# Altium footprint library Gates.PcbLib: 1 footprints
Each footprint in its own frame and in the unit in brackets; x right, y up, seen from the top. Pads: shape width x height; smd on the part's side, far side on the other; paste and mask are expansions set on the pad; w line width, h text height; cw(c..) or ccw(c..) is an arc to the next point about the centre after c.
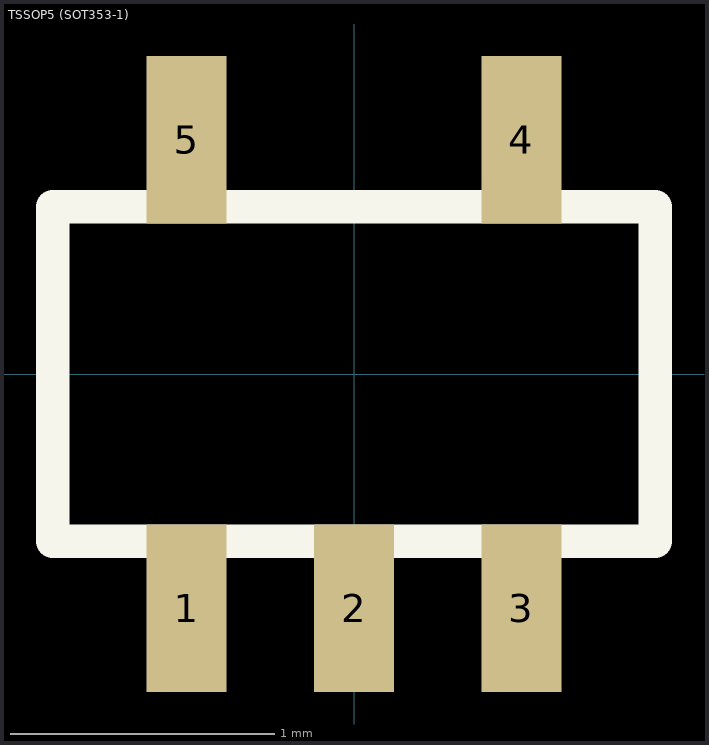
[diagram p0: the footprint, top view; thin cyan lines are the x and y axes]

## TSSOP5 (SOT353-1) [mil]
pads (5):
  rect 12x25 smd: 1(-25,-35) 2(0,-35) 3(25,-35) 4(25,35) 5(-25,35)
Top Overlay:
  lines w5: -45,-25 -45,25 45,25 45,-25 -45,-25